# Altium schematic symbol library FDP083N15A.SchLib: 1 symbol
Pins are listed as number, name and electrical type; pins without a type are passive.

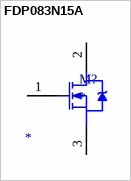
[diagram p0: symbol FDP083N15A]

## FDP083N15A
designator M?
MfrPartNo: *
pins: 1 G, 2 D, 3 S